# EAGLE library part CONNECTOR-8 (library HyTechDevices)
Mini-Fit Junior connector 8 pole Source: http://www.molex.com
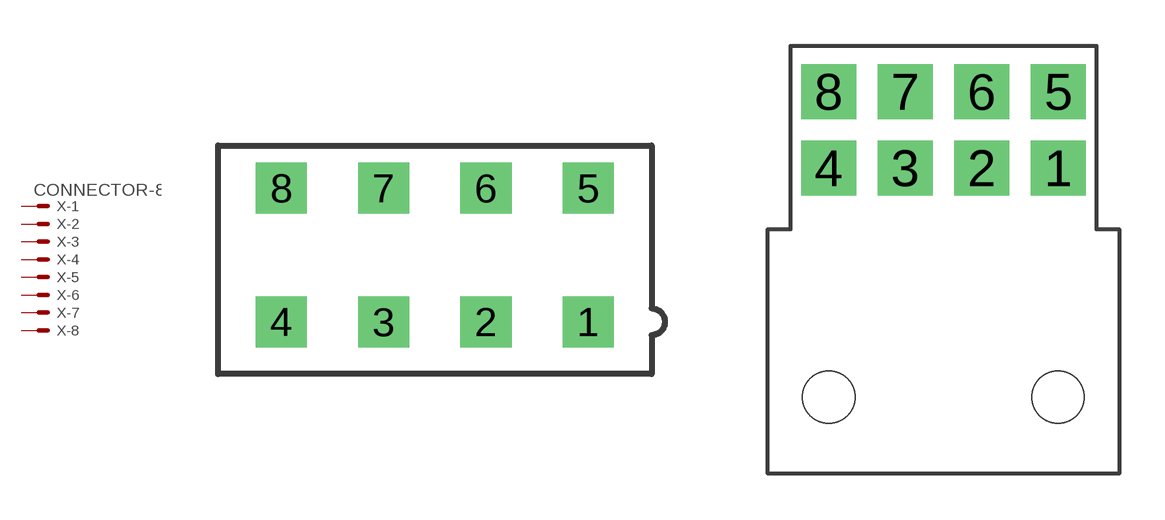
[diagram p25: symbol with the pads of MINIFIT_5566-8; footprints MINIFIT_5566-8, NANO-FIT_RIGHT_ANGLE-8]

Designator prefix X; gates -1=MV -2=M -3=M -4=M -5=M -6=M -7=M -8=M

## CONNECTOR-8 (OC_FARNELL: unknown; OC_NEWARK: unknown)  [MINIFIT_5566-8]
1  -1:S  pas
2  -2:S  pas
3  -3:S  pas
4  -4:S  pas
5  -5:S  pas
6  -6:S  pas
7  -7:S  pas
8  -8:S  pas

## CONNECTOR-8NANO-FIT_RIGHT_ANGLE-8  [NANO-FIT_RIGHT_ANGLE-8]
Pads as for MINIFIT_5566-8

## CONNECTOR-8NANO-FIT_RIGHT_ANGLE-8-SURFACE  [NANO-FIT_RIGHT_ANGLE-8-SURFACE]
Pads as for MINIFIT_5566-8

## CONNECTOR-8NANO-FIT_VERTICAL-8  [NANO-FIT_VERTICAL-8]
P$1  -1:S  pas
P$2  -2:S  pas
P$3  -3:S  pas
P$4  -4:S  pas
P$5  -5:S  pas
P$6  -6:S  pas
P$7  -7:S  pas
P$8  -8:S  pas

## CONNECTOR-8DURACLIK_RIGHT_ANGLE-8  [DURACLIK_RIGHT_ANGLE-8]
Pads as for MINIFIT_5566-8

## CONNECTOR-8DURACLIK_VERTICAL-8  [DURACLIK_VERTICAL-8]
Pads as for MINIFIT_5566-8

## CONNECTOR-8MX150L_VERTICAL-8  [MX150L_VERTICAL-8]
Pads as for MINIFIT_5566-8

## Footprint MINIFIT_5566-8 (pad centres in mm)
Mini-Fit Junior connector 8 pole Source: http://www.molex.com
drill 1.4 square: 1 6.3,-2.75; 2 2.1,-2.75; 3 -2.1,-2.75; 4 -6.3,-2.75; 5 6.3,2.75; 6 2.1,2.75; 7 -2.1,2.75; 8 -6.3,2.75

## Footprint NANO-FIT_RIGHT_ANGLE-8 (pad centres in mm)
drill 1.2 square: 1 3.75,0; 2 1.25,0; 3 -1.25,0; 4 -3.75,0; 5 3.75,2.5; 6 1.25,2.5; 7 -1.25,2.5; 8 -3.75,2.5
hole 1.7 at -3.75,-7.49
hole 1.7 at 3.75,-7.49

## Footprint NANO-FIT_RIGHT_ANGLE-8-SURFACE (pad centres in mm)
smd 1.24 x 2.5: 1 3.75,0.04; 2 1.25,0.04; 3 -1.25,0; 4 -3.75,0; 5 3.75,3.34; 6 1.25,3.34; 7 -1.25,3.3; 8 -3.75,3.3; P$11 -3.75,3.3
smd 1.1 x 8.2: P$9 -6.02,-4.93; P$10 6.02,-4.93

## Footprint NANO-FIT_VERTICAL-8 (pad centres in mm)
drill 1.2: P$1 -3.75,0; P$2 -1.25,0; P$3 1.25,0; P$4 3.75,0; P$5 -3.75,2.5; P$6 -1.25,2.5; P$7 1.25,2.5; P$8 3.75,2.5
hole 1.3 at 0,-1.34

## Footprint DURACLIK_RIGHT_ANGLE-8 (pad centres in mm)
smd 1.2 x 3.2: 1 7,8.13; 2 5,8.13; 3 3,8.13; 4 1,8.13; 5 -1,8.13; 6 -3,8.13; 7 -5,8.13; 8 -7,8.13
smd 1.7 x 5.3: P$9 -9.55,2.65; P$10 9.55,2.65

## Footprint DURACLIK_VERTICAL-8 (pad centres in mm)
smd 1.2 x 2.2: 1 7,7.68; 2 5,7.68; 3 3,7.68; 4 1,7.68; 5 -1,7.68; 6 -3,7.68; 7 -5,7.68; 8 -7,7.68
smd 2 x 4.2: P$1 10.6,2.1; P$2 -10.6,2.1

## Footprint MX150L_VERTICAL-8 (pad centres in mm)
19428-0014 MX150L™ Vertical PCB Header
drill 1.778 pad 3.81: 1 -8.763,2.997; 2 -2.921,2.997; 3 2.921,2.997; 4 8.763,2.997; 5 -8.763,-2.997; 6 -2.921,-2.997; 7 2.921,-2.997; 8 8.763,-2.997
hole 4.191 at -24.371,0
hole 4.191 at 24.371,0
hole 1.524 at -14.605,2.921